# Altium schematic symbol library Schlib1.SchLib: 11 symbols
Pins are listed as number, name and electrical type; pins without a type are passive.

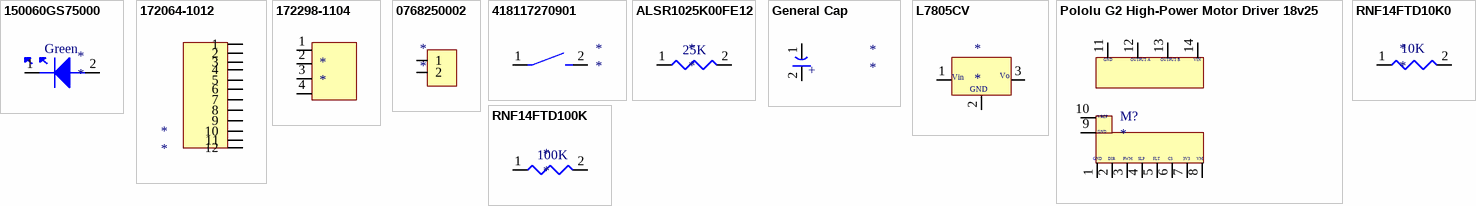
[diagram p0: symbols 150060GS75000 to RNF14FTD100K]

## 150060GS75000
designator *
WURTH ELEKTRONIK - 150060GS75000 - LED, 0603, GREEN, 430MCD, 520NM; Manufacturer 1: Wurth Electronics; Viewing Angle: 140°; Lens Style: Clear,Rectangular; Forward Current: 30mA; Forward Voltage: 3.2V; Test Current: 20mA; Supplier 1: Digi-Key; Supplier Part Number 1: 732-4971-1-ND; Manufacturer Part Number 1: 150060GS75000; Stock 1: 43099; Pricing 1: 1=0.14000, 50=0.13300, 100=0.11400, 500=0.09900 (USD); RoHS: Yes; Mount: Surface Mount; Case/Package: 0603; Color: Green; Case Code (Metric): 1608; Case Code (Imperial): 0603; Min Operating Temperature: -40°C; Max Operating Temperature: 85°C; Wavelength: 520nm; Package Quantity: 4000; Packaging: Tape and Reel; Luminous Intensity: 430mcd; Dominant Wavelength: 520nm; Length: 1.6mm; Height: 0.7mm; Width: 0.8mm; REACH SVHC: Unknown; Lead Free: Lead Free; ComponentLink1URL: https://datasheet.ciiva.com/29562/150060gs75000-29562868.pdf?src-supplier=Digi-Key; ComponentLink1Description: https://datasheet.ciiva.com/29562/150060gs75000-29562868.pdf?src-supplier=Digi-Key; ComponentLink2URL: https://datasheet.ciiva.com/29279/759427-da-01-en-chipled-0603-w-kl-gruen-150060gs75000-29279201.pdf?src-supplier=Conrad; ComponentLink2Description: https://datasheet.ciiva.com/29279/759427-da-01-en-chipled-0603-w-kl-gruen-150060gs75000-29279201.pdf?src-supplier=Conrad; ComponentLink3URL: https://datasheet.ciiva.com/29562/150060gs75000-29562869.pdf?src-supplier=Digi-Key; ComponentLink3Description: https://datasheet.ciiva.com/29562/150060gs75000-29562869.pdf?src-supplier=Digi-Key; ComponentLink4URL: https://datasheet.ciiva.com/29562/150060gs75000-29562870.pdf?src-supplier=Digi-Key; ComponentLink4Description: https://datasheet.ciiva.com/29562/150060gs75000-29562870.pdf?src-supplier=Digi-Key; Category: Optoelectronics
pins: 1, 2

## 172064-1012
designator *
Conn Shrouded Header HDR 12 POS 5.7mm Solder RA Thru-Hole Tray; Manufacturer 1: Molex Waldom; Manufacturer Part Number 1: 172064-1012; Number of Positions: 12; Connector Type: Male Pin; Row Spacing: 0.224inch; Glow Wire Compliant: Compliant; Supplier 1: Digi-Key; Supplier Part Number 1: WM11214-ND; Stock 1: 343; Pricing 1: 1=16.34000, 10=14.85400, 100=12.62590, 500=10.76916, 1000=9.87791 (USD); RoHS: Yes; Mount: Through Hole; Contact Plating: Gold; Color: Black; Min Operating Temperature: -40°C; Max Operating Temperature: 120°C; Packaging: Tray; Number of Rows: 2; Termination: Solder; Fastening Type: Ramp; Number of Contacts: 12; Orientation: Right Angle; Number of Circuits: 12; Pitch: 5.7mm; Halogen Free: Low Halogen; ComponentLink1URL: http://www.molex.com/pdm_docs/ps/PS-76823-100.pdf?src-supplier=Digi-Key; ComponentLink1Description: http://www.molex.com/pdm_docs/ps/PS-76823-100.pdf?src-supplier=Digi-Key; ComponentLink2URL: http://www.molex.com/pdm_docs/sd/1720641004_sd.pdf?src-supplier=Avnet; ComponentLink2Description: http://www.molex.com/pdm_docs/sd/1720641004_sd.pdf?src-supplier=Avnet; Category: Connectors
pins: 1, 2, 3, 4, 5, 6, 7, 8, 9, 10, 11, 12

## 172298-1104
designator *
Conn; Rect; W-to-B; Header; Vert; 3.50mm Pitch; 2-Row; 4 Pos; Ultra-Fit; Tin Plate; Black; Manufacturer 1: Molex; Manufacturer Part Number 1: 172298-1104; Number of Positions: 4; Gender: Male; Connector Type: Male Pin; Pitch: 0.138inch; Row Spacing: 0.181inch; Supplier 1: Digi-Key; Supplier Part Number 1: WM11578-ND; Stock 1: 5880; Pricing 1: 1=0.72000, 10=0.67600, 100=0.51840, 500=0.45080, 1000=0.37191, 5000=0.32683, 10000=0.30429 (USD); Mount: Through Hole; Number of Pins: 4; Contact Plating: Tin; Color: Black; Contact Material: Copper Alloy; Packaging: Tray; Number of Rows: 2; Termination: Kinked Pin; Fastening Type: Latch; Number of Circuits: 4; Orientation: Vertical; Number of Contacts: 4; REACH SVHC: Unknown; ComponentLink1URL: http://www.alliedelec.com/images/products/datasheets/bm/MOLEX/70617668.pdf?src-supplier=Allied+Electronics; ComponentLink1Description: http://www.alliedelec.com/images/products/datasheets/bm/MOLEX/70617668.pdf?src-supplier=Allied+Electronics; ComponentLink2URL: https://www.molex.com/pdm_docs/sd/1722981104_sd.pdf?src-supplier=Digi-Key; ComponentLink2Description: https://www.molex.com/pdm_docs/sd/1722981104_sd.pdf?src-supplier=Digi-Key; ComponentLink3URL: http://www.farnell.com/datasheets/1944206.pdf?src-supplier=Element14; ComponentLink3Description: http://www.farnell.com/datasheets/1944206.pdf?src-supplier=Element14; ComponentLink4URL: http://www.farnell.com/datasheets/1955765.pdf?src-supplier=Element14; ComponentLink4Description: http://www.farnell.com/datasheets/1955765.pdf?src-supplier=Element14; ComponentLink5URL: http://datasheet.octopart.com/1722981104-Molex-datasheet-137329411.pdf?src-supplier=Sager+Electronics; ComponentLink5Description: http://datasheet.octopart.com/1722981104-Molex-datasheet-137329411.pdf?src-supplier=Sager+Electronics; ComponentLink6URL: http://datasheet.octopart.com/172298-1104-Molex-datasheet-43880098.pdf?src-supplier=Element14; ComponentLink6Description: http://datasheet.octopart.com/172298-1104-Molex-datasheet-43880098.pdf?src-supplier=Element14; ComponentLink7URL: http://datasheet.octopart.com/172298-1104-Molex-datasheet-77519390.pdf?src-supplier=Farnell; ComponentLink7Description: http://datasheet.octopart.com/172298-1104-Molex-datasheet-77519390.pdf?src-supplier=Farnell; ComponentLink8URL: http://datasheet.octopart.com/172298-1104-Molex-datasheet-46739486.pdf?src-supplier=Element14; ComponentLink8Description: http://datasheet.octopart.com/172298-1104-Molex-datasheet-46739486.pdf?src-supplier=Element14; ComponentLink9URL: http://datasheet.octopart.com/172298-1104-Molex-datasheet-46739490.pdf?src-supplier=Farnell; ComponentLink9Description: http://datasheet.octopart.com/172298-1104-Molex-datasheet-46739490.pdf?src-supplier=Farnell; ComponentLink10URL: http://datasheet.octopart.com/172298-1104-Molex-datasheet-46721521.pdf?src-supplier=Allied+Electronics; ComponentLink10Description: http://datasheet.octopart.com/172298-1104-Molex-datasheet-46721521.pdf?src-supplier=Allied+Electronics; ComponentLink11URL: http://datasheet.octopart.com/172298-1104-Molex-datasheet-120142073.pdf?src-supplier=Allied+Electronics; ComponentLink11Description: http://datasheet.octopart.com/172298-1104-Molex-datasheet-120142073.pdf?src-supplier=Allied+Electronics; Category: Connectors
pins: 1, 2, 3, 4

## 0768250002
designator *
Conn Power HDR 2 POS 5.7mm Solder RA Thru-Hole 2 Terminal 1 Port; Manufacturer 1: Molex; Manufacturer Part Number 1: 0768250002; Number of Positions: 2; Connector Type: Male Pin; Row Spacing: 0.224inch; Supplier 1: Digi-Key; Supplier Part Number 1: WM11969-ND; Stock 1: 2157; Pricing 1: 1=1.13000, 10=0.99300, 25=0.93440, 50=0.89560, 100=0.85670, 250=0.77880, 500=0.70092, 2016=0.58410, 4032=0.56463 (USD); RoHS: Yes; Mount: Through Hole; Color: Black; Contact Plating: Tin; Number of Rows: 2; Termination: Solder; Packaging: Tray; Fastening Type: Ramp; ComponentLink1URL: https://www.molex.com/pdm_docs/sd/768250002_sd.pdf?src-supplier=Digi-Key; ComponentLink1Description: https://www.molex.com/pdm_docs/sd/768250002_sd.pdf?src-supplier=Digi-Key; Category: Connectors
pins: 1, 2

## 418117270901
designator *
SWITCH SLIDE DIP SPST 25MA 24V; Manufacturer 1: Wurth Electronics; Manufacturer Part Number 1: 418117270901; Body Material: Nylon,Polyamide; Mechanical Life: 5000Cycles; Number of Positions: 1; Electrical Life: 2000Cycles; Actuator Type: Slide (Standard); Pitch: 0.1inch; Washable: No; Supplier 1: Digi-Key; Supplier Part Number 1: 732-3831-5-ND; Stock 1: 3440; Pricing 1: 1=0.88000, 10=0.86100, 50=0.78600, 148=0.71101, 296=0.63601 (USD); RoHS: Yes; Mount: Through Hole; Contact Plating: Gold; Min Operating Temperature: -40°C; Max Operating Temperature: 85°C; Package Quantity: 148; Packaging: Rail/Tube; Current Rating: 25mA; Voltage Rating (DC): 24V; Termination: PC Pin; Throw Configuration: SPST; Length: 0.139inch; Lead Free: Lead Free; ComponentLink1URL: https://datasheet.ciiva.com/2864/4181172709xx-2864172.pdf?src-supplier=Digi-Key; ComponentLink1Description: https://datasheet.ciiva.com/2864/4181172709xx-2864172.pdf?src-supplier=Digi-Key; Category: Switches
pins: 1, 2

## ALSR1025K00FE12
designator *
RES 25K OHM 7W 1% AXIAL; Manufacturer 1: Vishay Dale; Manufacturer Part Number 1: ALSR1025K00FE12; Resistance: 25kR; Temperature Coefficient: 30ppm/°C; Lead Length: 38.1mm; Supplier 1: Digi-Key; Supplier Part Number 1: ALSR10-25.0K-ND; Stock 1: 748; Pricing 1: 1=2.83000, 10=2.52500, 25=2.37360, 50=2.17160, 100=1.86850, 250=1.61600, 500=1.46450, 1000=1.28775, 5000=1.24230 (USD); RoHS: Yes; Mount: Through Hole; Case/Package: Axial; Contact Plating: Tin; Min Operating Temperature: -65°C; Max Operating Temperature: 250°C; Packaging: Bulk; Tolerance: 1%; Power Rating: 7W; Package Quantity: 1; Composition: Wirewound; Number of Terminations: 2; Max Power Dissipation: 7W; Features: Moisture Resistant; Diameter: 7.92mm; Length: 1.73inch; Width: 7.92mm; Radiation Hardening: No; Lead Free: Lead Free; ComponentLink1URL: https://datasheet.ciiva.com/2724/alsralvr-2724084.pdf?src-supplier=Digi-Key; ComponentLink1Description: https://datasheet.ciiva.com/2724/alsralvr-2724084.pdf?src-supplier=Digi-Key; ComponentLink2URL: https://datasheet.ciiva.com/8750/alsralvr-8750093.pdf?src-supplier=Avnet; ComponentLink2Description: https://datasheet.ciiva.com/8750/alsralvr-8750093.pdf?src-supplier=Avnet; Category: Resistors
pins: 1, 2
text: 25K

## General Cap
designator *
Category: capacitors
pins: 1, 2
text: +

## L7805CV
designator *
L7805 Series 5 V 1.5 A Fixed Flange Mount Voltage Regulator - TO-220-3; Manufacturer 1: STMicroelectronics; Manufacturer Part Number 1: L7805CV; Dropout Voltage: 2V; Max Input Voltage: 35V; Output Current: 1.5A; Output Voltage: 5V; Number of Outputs: 1; Min Input Voltage: 7V; Polarity: Positive; Quiescent Current: 8mA; Tolerance: 5%; Power Supply Rejection Ratio (PSRR): 62dB; Supplier 1: Digi-Key; Supplier Part Number 1: 497-1443-5-ND; Stock 1: 30057; Pricing 1: 1=0.50000, 10=0.42600, 25=0.39800, 100=0.29560, 250=0.25016, 500=0.23878, 1000=0.17624, 2500=0.16486, 5000=0.15350 (USD); Mount: Through Hole; Case/Package: TO; Number of Pins: 3; Weight: 0.08113oz; Contact Plating: Gold; Min Operating Temperature: 0°C; Max Operating Temperature: 125°C; Package Quantity: 1000; Packaging: Rail/Tube; Max Output Current: 1.5A; Nominal Output Voltage: 5V; Number of Regulators: 1; Min Output Voltage: 5V; Output Type: Fixed; Output Configuration: Positive; Length: 10.4mm; Height: 9.15mm; Width: 4.6mm; Radiation Hardening: No; REACH SVHC: No SVHC; Lead Free: Lead Free; ComponentLink1URL: https://datasheet.ciiva.com/15111/getdatasheetpartid-44136-15111027.pdf?src-supplier=Verical; ComponentLink1Description: https://datasheet.ciiva.com/15111/getdatasheetpartid-44136-15111027.pdf?src-supplier=Verical; ComponentLink2URL: https://datasheet.ciiva.com/19480/924633-19480531.pdf?src-supplier=Jameco; ComponentLink2Description: https://datasheet.ciiva.com/19480/924633-19480531.pdf?src-supplier=Jameco; ComponentLink3URL: https://datasheet.ciiva.com/26347/47-3290e-26347739.pdf?src-supplier=Rapid+Electronics; ComponentLink3Description: https://datasheet.ciiva.com/26347/47-3290e-26347739.pdf?src-supplier=Rapid+Electronics; ComponentLink4URL: https://datasheet.ciiva.com/29156/156048-da-01-en-spannungsregler-l-7805-cv-to220-stm-29156924.pdf?src-supplier=Conrad; ComponentLink4Description: https://datasheet.ciiva.com/29156/156048-da-01-en-spannungsregler-l-7805-cv-to220-stm-29156924.pdf?src-supplier=Conrad; ComponentLink5URL: https://datasheet.ciiva.com/26904/l7805cv-26904430.pdf?src-supplier=IIIC; ComponentLink5Description: https://datasheet.ciiva.com/26904/l7805cv-26904430.pdf?src-supplier=IIIC; ComponentLink6URL: https://datasheet.ciiva.com/2043/cd00000444-2043986.pdf?src-supplier=Digi-Key; ComponentLink6Description: https://datasheet.ciiva.com/2043/cd00000444-2043986.pdf?src-supplier=Digi-Key; ComponentLink7URL: https://datasheet.ciiva.com/1511/1805459-1511914.pdf?src-supplier=Element14; ComponentLink7Description: https://datasheet.ciiva.com/1511/1805459-1511914.pdf?src-supplier=Element14; ComponentLink8URL: https://datasheet.ciiva.com/14149/tel78xx-l78xxc-e-14149770.pdf?src-supplier=Distrelec; ComponentLink8Description: https://datasheet.ciiva.com/14149/tel78xx-l78xxc-e-14149770.pdf?src-supplier=Distrelec; ComponentLink9URL: https://datasheet.ciiva.com/1511/1805459-1511915.pdf?src-supplier=Element14; ComponentLink9Description: https://datasheet.ciiva.com/1511/1805459-1511915.pdf?src-supplier=Element14; ComponentLink10URL: https://datasheet.ciiva.com/1512/1805459-1512333.pdf?src-supplier=Element14; ComponentLink10Description: https://datasheet.ciiva.com/1512/1805459-1512333.pdf?src-supplier=Element14; ComponentLink11URL: https://datasheet.ciiva.com/2073/cd00000444-2073087.pdf?src-supplier=Digi-Key; ComponentLink11Description: https://datasheet.ciiva.com/2073/cd00000444-2073087.pdf?src-supplier=Digi-Key; ComponentLink12URL: http://datasheet.octopart.com/L7805CV-STMicroelectronics-datasheet-5316848.pdf?src-supplier=Factory+Futures; ComponentLink12Description: http://datasheet.octopart.com/L7805CV-STMicroelectronics-datasheet-5316848.pdf?src-supplier=Factory+Futures; ComponentLink13URL: http://datasheet.octopart.com/L7805CV-STMicroelectronics-datasheet-11003276.pdf?src-supplier=Factory+Futures; ComponentLink13Description: http://datasheet.octopart.com/L7805CV-STMicroelectronics-datasheet-11003276.pdf?src-supplier=Factory+Futures; ComponentLink14URL: http://datasheet.octopart.com/L7805CV-STMicroelectronics-datasheet-10835933.pdf?src-supplier=Factory+Futures; ComponentLink14Description: http://datasheet.octopart.com/L7805CV-STMicroelectronics-datasheet-10835933.pdf?src-supplier=Factory+Futures; ComponentLink15URL: http://datasheet.octopart.com/L7805CV-STMicroelectronics-datasheet-12510217.pdf?src-supplier=Factory+Futures; ComponentLink15Description: http://datasheet.octopart.com/L7805CV-STMicroelectronics-datasheet-12510217.pdf?src-supplier=Factory+Futures; ComponentLink16URL: http://datasheet.octopart.com/L7805CV-STMicroelectronics-datasheet-10082731.pdf?src-supplier=Factory+Futures; ComponentLink16Description: http://datasheet.octopart.com/L7805CV-STMicroelectronics-datasheet-10082731.pdf?src-supplier=Factory+Futures; ComponentLink17URL: http://datasheet.octopart.com/L7805CV-STMicroelectronics-datasheet-10406743.pdf?src-supplier=Factory+Futures; ComponentLink17Description: http://datasheet.octopart.com/L7805CV-STMicroelectronics-datasheet-10406743.pdf?src-supplier=Factory+Futures; ComponentLink18URL: http://datasheet.octopart.com/L7805CV-STMicroelectronics-datasheet-10550045.pdf?src-supplier=Factory+Futures; ComponentLink18Description: http://datasheet.octopart.com/L7805CV-STMicroelectronics-datasheet-10550045.pdf?src-supplier=Factory+Futures; ComponentLink19URL: http://datasheet.octopart.com/L7805CV-STMicroelectronics-datasheet-62333152.pdf?src-supplier=STMicroelectronics; ComponentLink19Description: http://datasheet.octopart.com/L7805CV-STMicroelectronics-datasheet-62333152.pdf?src-supplier=STMicroelectronics; ComponentLink20URL: http://datasheet.octopart.com/L7805CV-STMicroelectronics-datasheet-73860655.pdf?src-supplier=Element14; ComponentLink20Description: http://datasheet.octopart.com/L7805CV-STMicroelectronics-datasheet-73860655.pdf?src-supplier=Element14; ComponentLink21URL: http://datasheet.octopart.com/L7805CV-STMicroelectronics-datasheet-25360458.pdf?src-supplier=Element14; ComponentLink21Description: http://datasheet.octopart.com/L7805CV-STMicroelectronics-datasheet-25360458.pdf?src-supplier=Element14; ComponentLink22URL: http://datasheet.octopart.com/L7805C-V-STMicroelectronics-datasheet-8494008.pdf?src-supplier=Future+Electronics; ComponentLink22Description: http://datasheet.octopart.com/L7805C-V-STMicroelectronics-datasheet-8494008.pdf?src-supplier=Future+Electronics; ComponentLink23URL: http://datasheet.octopart.com/L7805CV-STMicroelectronics-datasheet-14717135.pdf?src-supplier=Element14; ComponentLink23Description: http://datasheet.octopart.com/L7805CV-STMicroelectronics-datasheet-14717135.pdf?src-supplier=Element14; ComponentLink24URL: http://datasheet.octopart.com/L7805CV-STMicroelectronics-datasheet-62333080.pdf?src-supplier=Element14; ComponentLink24Description: http://datasheet.octopart.com/L7805CV-STMicroelectronics-datasheet-62333080.pdf?src-supplier=Element14; ComponentLink25URL: http://datasheet.octopart.com/L7805CV-STMicroelectronics-datasheet-5578.pdf?src-supplier=Newark; ComponentLink25Description: http://datasheet.octopart.com/L7805CV-STMicroelectronics-datasheet-5578.pdf?src-supplier=Newark; ComponentLink26URL: http://datasheet.octopart.com/L7805CV-STMicroelectronics-datasheet-109553.pdf?src-supplier=Element14; ComponentLink26Description: http://datasheet.octopart.com/L7805CV-STMicroelectronics-datasheet-109553.pdf?src-supplier=Element14; ComponentLink27URL: http://datasheet.octopart.com/L7805CV-STMicroelectronics-datasheet-108470.pdf?src-supplier=Farnell; ComponentLink27Description: http://datasheet.octopart.com/L7805CV-STMicroelectronics-datasheet-108470.pdf?src-supplier=Farnell; ComponentLink28URL: http://datasheet.octopart.com/L7805CV-STMicroelectronics-datasheet-7264666.pdf?src-supplier=Jameco; ComponentLink28Description: http://datasheet.octopart.com/L7805CV-STMicroelectronics-datasheet-7264666.pdf?src-supplier=Jameco; ComponentLink29URL: http://datasheet.octopart.com/L7805CV-STMicroelectronics-datasheet-9642343.pdf?src-supplier=Allied+Electronics; ComponentLink29Description: http://datasheet.octopart.com/L7805CV-STMicroelectronics-datasheet-9642343.pdf?src-supplier=Allied+Electronics; ComponentLink30URL: http://datasheet.octopart.com/L7805CV-STMicroelectronics-datasheet-136036604.pdf?src-supplier=Ciiva+Crawler; ComponentLink30Description: http://datasheet.octopart.com/L7805CV-STMicroelectronics-datasheet-136036604.pdf?src-supplier=Ciiva+Crawler; ComponentLink31URL: http://datasheet.octopart.com/L7805CV-STMicroelectronics-datasheet-61038.pdf?src-supplier=Mouser; ComponentLink31Description: http://datasheet.octopart.com/L7805CV-STMicroelectronics-datasheet-61038.pdf?src-supplier=Mouser; ComponentLink32URL: http://datasheet.octopart.com/L7805CV-STMicroelectronics-datasheet-11554490.pdf?src-supplier=Arrow; ComponentLink32Description: http://datasheet.octopart.com/L7805CV-STMicroelectronics-datasheet-11554490.pdf?src-supplier=Arrow; ComponentLink33URL: http://datasheet.octopart.com/L7805CV-STMicroelectronics-datasheet-8464528.pdf?src-supplier=Future+Electronics; ComponentLink33Description: http://datasheet.octopart.com/L7805CV-STMicroelectronics-datasheet-8464528.pdf?src-supplier=Future+Electronics; ComponentLink34URL: http://datasheet.octopart.com/L7805CV-STMicroelectronics-datasheet-14169698.pdf?src-supplier=IIIC; ComponentLink34Description: http://datasheet.octopart.com/L7805CV-STMicroelectronics-datasheet-14169698.pdf?src-supplier=IIIC; Category: Integrated Circuits (ICs)
pins: 1, 2, 3
text: Vin; Vo; GND

## Pololu G2 High-Power Motor Driver 18v25
designator M?
Category: Brushed DC motor
pins: 1, 2, 3, 4, 5, 6, 7, 8, 9, 10, 11, 12, 13, 14
text: GND; OUTPUT A; OUTPUT B; VIN; VREF; DIR; PWM; SLP; FLT; CS; 3V3; VM

## RNF14FTD10K0
designator *
RES 10K OHM 1/4W 1% AXIAL; Manufacturer 1: Stackpole Electronics; Manufacturer Part Number 1: RNF14FTD10K0; Resistance: 10kR; Power Rating: 250mW; Temperature Coefficient: 100ppm/°C; Supplier 1: Digi-Key; Supplier Part Number 1: RNF14FTD10K0CT-ND; Stock 1: 336343; Pricing 1: 1=0.10000, 10=0.07200, 25=0.04960, 50=0.03860, 100=0.02750, 250=0.02144, 500=0.01706, 1000=0.01210 (USD); RoHS: Yes; Mount: Through Hole,Axial; Case/Package: Conformal; Contact Plating: Copper,Tin; Min Operating Temperature: -55°C; Max Operating Temperature: 155°C; Tolerance: 1%; Packaging: Tape and Reel; Package Quantity: 1; Composition: Metal Film; Number of Terminations: 2; Military Standard: Not; Termination: Axial; Max Power Dissipation: 250mW; Features: Flame Retardant Coating; Diameter: 2.35mm; Length: 6.35mm; Lead Free: Lead Free; ComponentLink1URL: https://www.seielect.com/Catalog/SEI-RNF_RNMF.pdf?src-supplier=Digi-Key; ComponentLink1Description: https://www.seielect.com/Catalog/SEI-RNF_RNMF.pdf?src-supplier=Digi-Key; ComponentLink2URL: http://www.seielect.com/Catalog/SEI-RNF_RNMF.pdf?src-supplier=Future+Electronics; ComponentLink2Description: http://www.seielect.com/Catalog/SEI-RNF_RNMF.pdf?src-supplier=Future+Electronics; ComponentLink3URL: https://www.verical.com/server-webapp/html/getDatasheet?partID=359922&src-supplier=Verical; ComponentLink3Description: https://www.verical.com/server-webapp/html/getDatasheet?partID=359922&src-supplier=Verical; ComponentLink4URL: https://www.seielect.com/Catalog/SEI-RNF_RNMF.pdf?src-supplier=Avnet; ComponentLink4Description: https://www.seielect.com/Catalog/SEI-RNF_RNMF.pdf?src-supplier=Avnet; Category: Resistors
pins: 1, 2
text: 10K

## RNF14FTD100K
designator *
RES 100K OHM 1/4W 1% AXIAL; Manufacturer 1: Stackpole Electronics; Manufacturer Part Number 1: RNF14FTD100K; Resistance: 100kR; Power Rating: 250mW; Temperature Coefficient: 100ppm/°C; Supplier 1: Digi-Key; Supplier Part Number 1: RNF14FTD100KCT-ND; Stock 1: 138738; Pricing 1: 1=0.10000, 10=0.07200, 25=0.04960, 50=0.03860, 100=0.02750, 250=0.02144, 500=0.01706, 1000=0.01210 (USD); RoHS: Yes; Mount: Through Hole,Axial; Case/Package: Conformal; Contact Plating: Copper,Tin; Min Operating Temperature: -55°C; Max Operating Temperature: 155°C; Tolerance: 1%; Packaging: Tape and Reel; Package Quantity: 1; Composition: Metal Film; Number of Terminations: 2; Military Standard: Not; Termination: Axial; Max Power Dissipation: 250mW; Features: Flame Retardant Coating; Diameter: 2.35mm; Length: 6.35mm; Radiation Hardening: No; Lead Free: Lead Free; ComponentLink1URL: https://www.seielect.com/Catalog/SEI-RNF_RNMF.pdf?src-supplier=Digi-Key; ComponentLink1Description: https://www.seielect.com/Catalog/SEI-RNF_RNMF.pdf?src-supplier=Digi-Key; ComponentLink2URL: https://www.seielect.com/Catalog/SEI-RNF_RNMF.pdf?src-supplier=Avnet; ComponentLink2Description: https://www.seielect.com/Catalog/SEI-RNF_RNMF.pdf?src-supplier=Avnet; ComponentLink3URL: https://www.verical.com/server-webapp/html/getDatasheet?partID=364266&src-supplier=Verical; ComponentLink3Description: https://www.verical.com/server-webapp/html/getDatasheet?partID=364266&src-supplier=Verical; ComponentLink4URL: http://www.seielect.com/Catalog/SEI-RNF_RNMF.pdf?src-supplier=Future+Electronics; ComponentLink4Description: http://www.seielect.com/Catalog/SEI-RNF_RNMF.pdf?src-supplier=Future+Electronics; Category: Resistors
pins: 1, 2
text: 100K